# Altium footprint library C1812(4532)x2.PcbLib: 1 footprints
Each footprint in its own frame and in the unit in brackets; x right, y up, seen from the top. Pads: shape width x height; smd on the part's side, far side on the other; paste and mask are expansions set on the pad; w line width, h text height; cw(c..) or ccw(c..) is an arc to the next point about the centre after c.
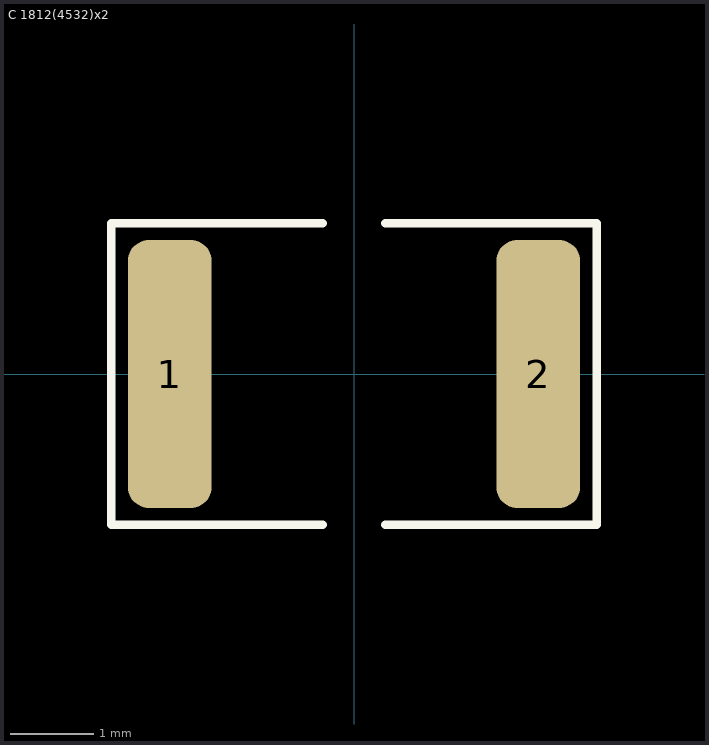
[diagram p0: the footprint, top view; thin cyan lines are the x and y axes]

## C 1812(4532)x2 [mm]
height 2
pads (2):
  rrect50% 1x3.2 smd: 1(-2.2,0) 2(2.2,0)
Top Overlay:
  lines w0.1: -0.375,-1.8 -2.9,-1.8 -2.9,1.8 -0.375,1.8 ; 0.375,-1.8 2.9,-1.8 2.9,1.8 0.375,1.8
3D body "Cap 1812(4532)x200N.STEP": height 2.01, standoff 0, extent -2.25,-1.6 2.25,1.6